# Altium integrated library Analog Devices Operational Amplifiers.IntLib: 2102 symbols (part 24 of 70)
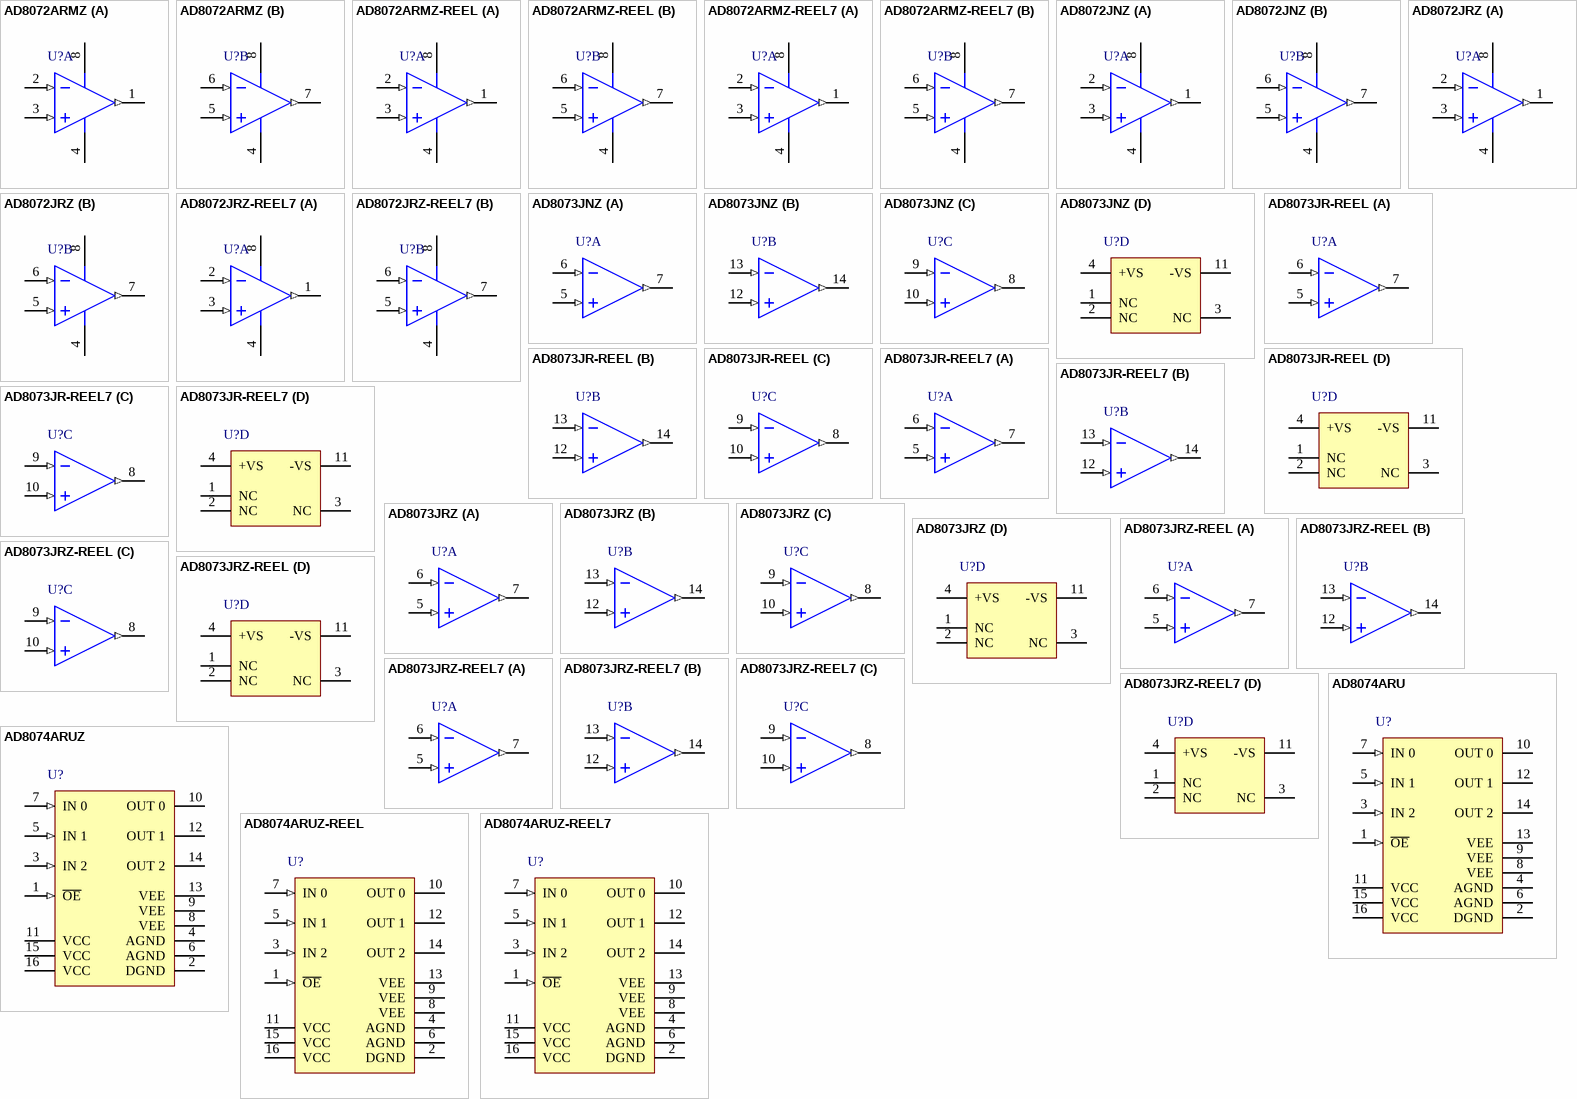
[diagram p137: symbols AD8072ARMZ to AD8074ARUZ-REEL7]

## AD8074ARUZ-REEL7
designator U?
3 Channel Low Supply Current Operational Amplifier, 600 MHz BW, 1.6 KV/us SR, Industrial, 16-pin SOP (RU-16), Reel; Generic Part Number: AD8074; Manufacturer: Analog Devices; PartNumber: AD8074ARUZ-REEL7; Amplifiers Per Package: 3; Input Bias Current: 5uA; Input Offset Voltage: 2.5mV; Iq/Amp: 10mA; Small Signal Bandwidth: 600MHz; V Span Max: 11V; V Span Min: 9V; DatasheetVersion: Rev. B; PackageReference: RU-16; PackageDescription: 16-Pin Thin Shrink Small Outline Package, Body 5 x 4.4 mm, Pitch 0.65 mm; Supplier 1: Digi-Key; Supplier Part Number 1: AD8074ARUZ-REEL7-ND; Slew Rate: 1.6KV/us; Mounting Technology: Surface Mount; Code_JEDEC: MO-153AB; ComponentLink1Description: Manufacturer URL; ComponentLink1URL: http://www.analog.com/en/index.html; ComponentLink2Description: Datasheet; ComponentLink2URL: http://www.analog.com/static/imported-files/data_sheets/AD8074_8075.pdf; ComponentLink3Description: Package Specification; ComponentLink3URL: http://www.analog.com/static/imported-files/packages/36244347913743854010197452789RU16.pdf
footprint ADI-RU-16_N (SOP, 16-Leads, Body 5x4.4mm, Pitch 0.65mm, IPC Medium Density)
footprint ADI-RU-16_L (SOP, 16-Leads, Body 5x4.4mm, Pitch 0.65mm, IPC High Density)
footprint ADI-RU-16_M (SOP, 16-Leads, Body 5x4.4mm, Pitch 0.65mm, IPC Low Density)
pins: 1 ~{OE} (in), 2 DGND (power), 3 IN 2 (in), 4 AGND (power), 5 IN 1 (in), 6 AGND (power), 7 IN 0 (in), 8 VEE (power), 9 VEE (power), 10 OUT 0 (hiz), 11 VCC (power), 12 OUT 1 (hiz), 13 VEE (power), 14 OUT 2 (hiz), 15 VCC (power), 16 VCC (power)

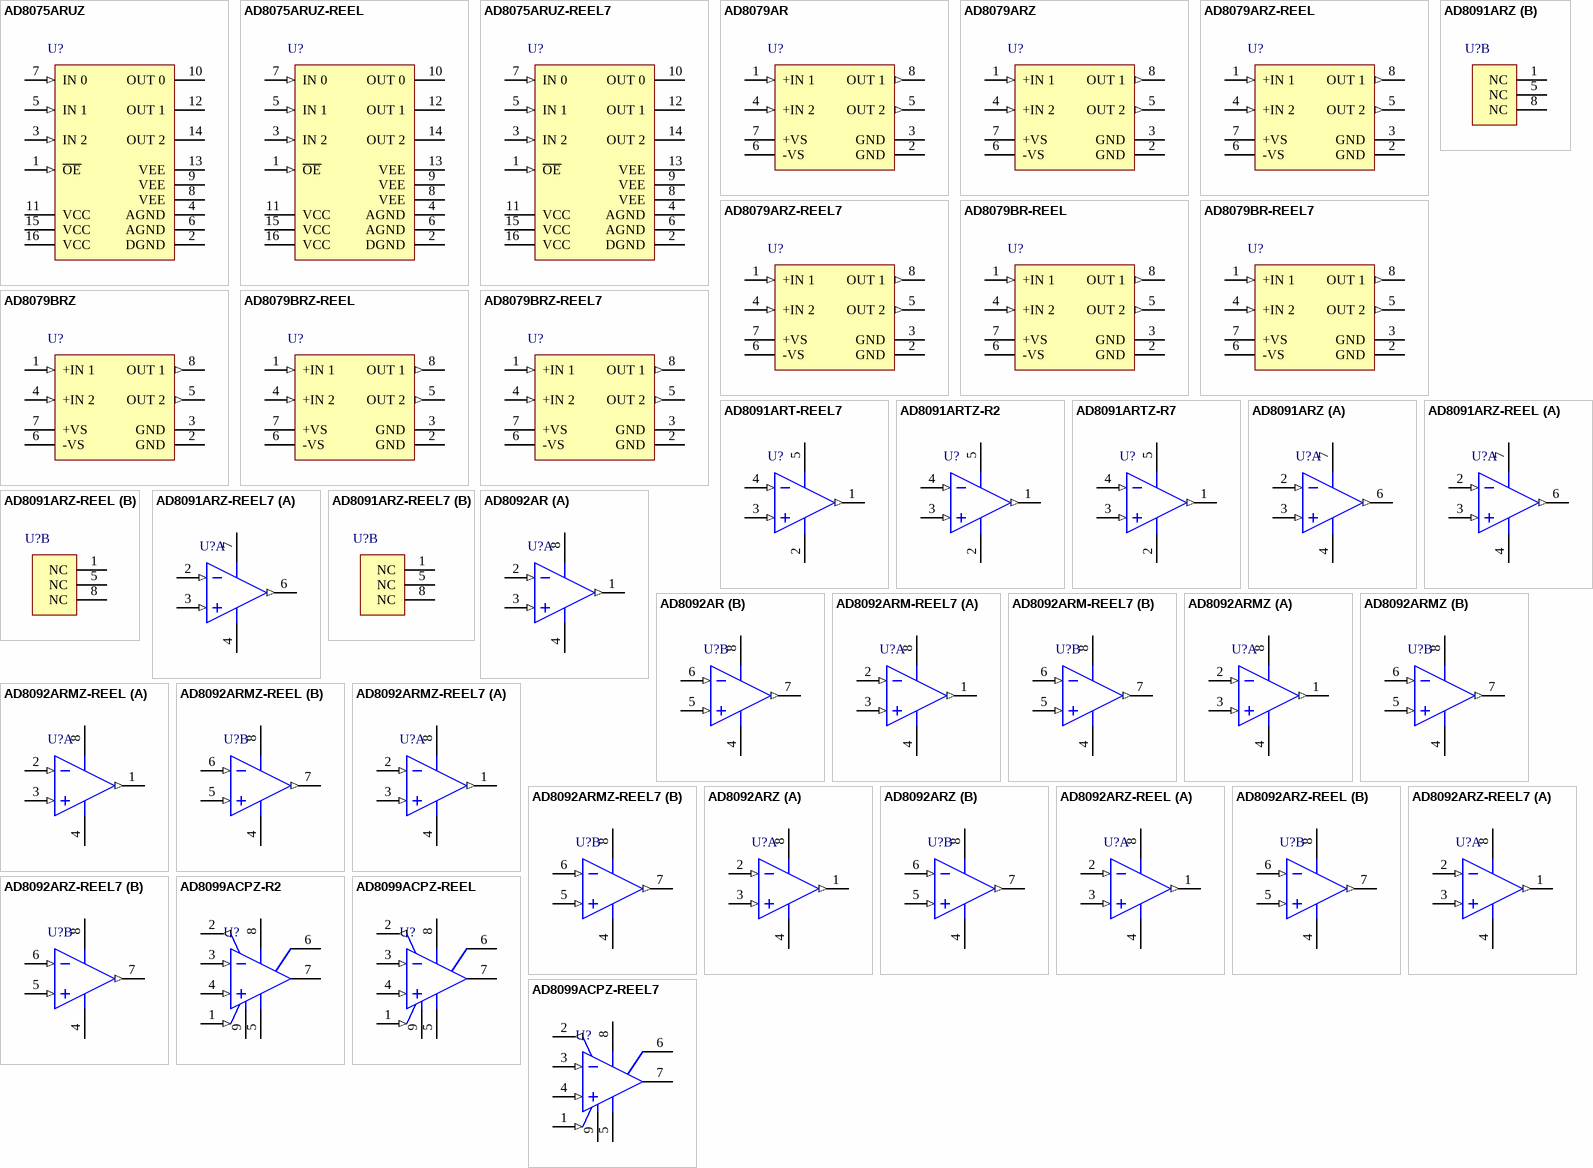
[diagram p35: symbols AD8075ARUZ to AD8099ACPZ-REEL7]

## AD8075ARUZ
designator U?
3 Channel Low Supply Current Operational Amplifier, 550 MHz BW, 1.35 KV/us SR, Industrial, 16-pin SOP (RU-16), Tube; Generic Part Number: AD8075; Manufacturer: Analog Devices; PartNumber: AD8075ARUZ; Amplifiers Per Package: 3; Input Bias Current: 5uA; Input Offset Voltage: 2.5mV; Iq/Amp: 10mA; Small Signal Bandwidth: 550MHz; V Span Max: 11V; V Span Min: 9V; DatasheetVersion: Rev. B; PackageReference: RU-16; PackageDescription: 16-Pin Thin Shrink Small Outline Package, Body 5 x 4.4 mm, Pitch 0.65 mm; Supplier 1: Digi-Key; Supplier Part Number 1: AD8075ARUZ-ND; Supplier 2: Farnell; Supplier Part Number 2: 9426035; Supplier 3: Newark; Supplier Part Number 3: 31M4471; Supplier 4: Newark; Supplier Part Number 4: 19M0930; Slew Rate: 1.35KV/us; Mounting Technology: Surface Mount; Code_JEDEC: MO-153AB; ComponentLink1Description: Manufacturer URL; ComponentLink1URL: http://www.analog.com/en/index.html; ComponentLink2Description: Datasheet; ComponentLink2URL: http://www.analog.com/static/imported-files/data_sheets/AD8074_8075.pdf; ComponentLink3Description: Package Specification; ComponentLink3URL: http://www.analog.com/static/imported-files/packages/36244347913743854010197452789RU16.pdf
footprint ADI-RU-16_N (SOP, 16-Leads, Body 5x4.4mm, Pitch 0.65mm, IPC Medium Density)
footprint ADI-RU-16_L (SOP, 16-Leads, Body 5x4.4mm, Pitch 0.65mm, IPC High Density)
footprint ADI-RU-16_M (SOP, 16-Leads, Body 5x4.4mm, Pitch 0.65mm, IPC Low Density)
pins: 1 ~{OE} (in), 2 DGND (power), 3 IN 2 (in), 4 AGND (power), 5 IN 1 (in), 6 AGND (power), 7 IN 0 (in), 8 VEE (power), 9 VEE (power), 10 OUT 0 (hiz), 11 VCC (power), 12 OUT 1 (hiz), 13 VEE (power), 14 OUT 2 (hiz), 15 VCC (power), 16 VCC (power)

## AD8075ARUZ-REEL
designator U?
3 Channel Low Supply Current Operational Amplifier, 550 MHz BW, 1.35 KV/us SR, Industrial, 16-pin SOP (RU-16), Reel; Generic Part Number: AD8075; Manufacturer: Analog Devices; PartNumber: AD8075ARUZ-REEL; Amplifiers Per Package: 3; Input Bias Current: 5uA; Input Offset Voltage: 2.5mV; Iq/Amp: 10mA; Small Signal Bandwidth: 550MHz; V Span Max: 11V; V Span Min: 9V; DatasheetVersion: Rev. B; PackageReference: RU-16; PackageDescription: 16-Pin Thin Shrink Small Outline Package, Body 5 x 4.4 mm, Pitch 0.65 mm; Supplier 1: Digi-Key; Supplier Part Number 1: AD8075ARUZ-REEL-ND; Supplier 2: Newark; Supplier Part Number 2: 82H2978; Slew Rate: 1.35KV/us; Mounting Technology: Surface Mount; Code_JEDEC: MO-153AB; ComponentLink1Description: Manufacturer URL; ComponentLink1URL: http://www.analog.com/en/index.html; ComponentLink2Description: Datasheet; ComponentLink2URL: http://www.analog.com/static/imported-files/data_sheets/AD8074_8075.pdf; ComponentLink3Description: Package Specification; ComponentLink3URL: http://www.analog.com/static/imported-files/packages/36244347913743854010197452789RU16.pdf
footprint ADI-RU-16_N (SOP, 16-Leads, Body 5x4.4mm, Pitch 0.65mm, IPC Medium Density)
footprint ADI-RU-16_L (SOP, 16-Leads, Body 5x4.4mm, Pitch 0.65mm, IPC High Density)
footprint ADI-RU-16_M (SOP, 16-Leads, Body 5x4.4mm, Pitch 0.65mm, IPC Low Density)
pins: 1 ~{OE} (in), 2 DGND (power), 3 IN 2 (in), 4 AGND (power), 5 IN 1 (in), 6 AGND (power), 7 IN 0 (in), 8 VEE (power), 9 VEE (power), 10 OUT 0 (hiz), 11 VCC (power), 12 OUT 1 (hiz), 13 VEE (power), 14 OUT 2 (hiz), 15 VCC (power), 16 VCC (power)

## AD8075ARUZ-REEL7
designator U?
3 Channel Low Supply Current Operational Amplifier, 550 MHz BW, 1.35 KV/us SR, Industrial, 16-pin SOP (RU-16), Reel; Generic Part Number: AD8075; Manufacturer: Analog Devices; PartNumber: AD8075ARUZ-REEL7; Amplifiers Per Package: 3; Input Bias Current: 5uA; Input Offset Voltage: 2.5mV; Iq/Amp: 10mA; Small Signal Bandwidth: 550MHz; V Span Max: 11V; V Span Min: 9V; DatasheetVersion: Rev. B; PackageReference: RU-16; PackageDescription: 16-Pin Thin Shrink Small Outline Package, Body 5 x 4.4 mm, Pitch 0.65 mm; Supplier 1: Digi-Key; Supplier Part Number 1: AD8075ARUZ-REEL7TR-ND; Supplier 2: Digi-Key; Supplier Part Number 2: AD8075ARUZ-REEL7CT-ND; Supplier 3: Digi-Key; Supplier Part Number 3: AD8075ARUZ-REEL7DKR-ND; Supplier 4: Newark; Supplier Part Number 4: 82H2979; Slew Rate: 1.35KV/us; Mounting Technology: Surface Mount; Code_JEDEC: MO-153AB; ComponentLink1Description: Manufacturer URL; ComponentLink1URL: http://www.analog.com/en/index.html; ComponentLink2Description: Datasheet; ComponentLink2URL: http://www.analog.com/static/imported-files/data_sheets/AD8074_8075.pdf; ComponentLink3Description: Package Specification; ComponentLink3URL: http://www.analog.com/static/imported-files/packages/36244347913743854010197452789RU16.pdf
footprint ADI-RU-16_N (SOP, 16-Leads, Body 5x4.4mm, Pitch 0.65mm, IPC Medium Density)
footprint ADI-RU-16_L (SOP, 16-Leads, Body 5x4.4mm, Pitch 0.65mm, IPC High Density)
footprint ADI-RU-16_M (SOP, 16-Leads, Body 5x4.4mm, Pitch 0.65mm, IPC Low Density)
pins: 1 ~{OE} (in), 2 DGND (power), 3 IN 2 (in), 4 AGND (power), 5 IN 1 (in), 6 AGND (power), 7 IN 0 (in), 8 VEE (power), 9 VEE (power), 10 OUT 0 (hiz), 11 VCC (power), 12 OUT 1 (hiz), 13 VEE (power), 14 OUT 2 (hiz), 15 VCC (power), 16 VCC (power)

## AD8079AR
designator U?
Double Channel Low Power Operational Amplifier, 260 MHz BW, 800 V/us SR, Industrial, 8-pin SOIC (R-8), Tube; Generic Part Number: AD8079; Manufacturer: Analog Devices; PartNumber: AD8079AR; Amplifiers Per Package: 2; Input Bias Current: 3uA; Input Offset Voltage: 5mV; Iq/Amp: 10mA; Small Signal Bandwidth: 260MHz; V Span Max: 12V; V Span Min: 6V; DatasheetVersion: Rev. A; PackageVersion: 060506-A; PackageReference: R-8; PackageDescription: 8-Pin Standard Small Outline Package, Body 3.9 x 4.9 mm, Pitch 1.27 mm; Supplier 1: Digi-Key; Supplier Part Number 1: AD8079AR-ND; Packing: Tube; Slew Rate: 800V/us; Mounting Technology: Surface Mount; Code_JEDEC: MS-012-AA; ComponentLink1Description: Manufacturer URL; ComponentLink1URL: http://www.analog.com/en/index.html; ComponentLink2Description: Datasheet; ComponentLink2URL: http://www.analog.com/static/imported-files/data_sheets/AD8079.pdf; ComponentLink3Description: Package Specification; ComponentLink3URL: http://www.analog.com/static/imported-files/packages/PKG_PDF/SOIC_Narrow%20(R)/R_8.pdf
footprint ADI-R-8_N (SOIC, 8-Leads, Body 4.9x3.9mm, Pitch 1.27mm, IPC Medium Density)
footprint ADI-R-8_L (SOIC, 8-Leads, Body 4.9x3.9mm, Pitch 1.27mm, IPC High Density)
footprint ADI-R-8_M (SOIC, 8-Leads, Body 4.9x3.9mm, Pitch 1.27mm, IPC Low Density)
pins: 1 +IN 1 (in), 2 GND (power), 3 GND (power), 4 +IN 2 (in), 5 OUT 2 (out), 6 -VS (power), 7 +VS (power), 8 OUT 1 (out)

## AD8079ARZ
designator U?
Double Channel Low Power Operational Amplifier, 260 MHz BW, 800 V/us SR, Industrial, 8-pin SOIC (R-8), Tube; Generic Part Number: AD8079; Manufacturer: Analog Devices; PartNumber: AD8079ARZ; Amplifiers Per Package: 2; Input Bias Current: 3uA; Input Offset Voltage: 5mV; Iq/Amp: 10mA; Small Signal Bandwidth: 260MHz; V Span Max: 12V; V Span Min: 6V; DatasheetVersion: Rev. A; PackageVersion: 060506-A; PackageReference: R-8; PackageDescription: 8-Pin Standard Small Outline Package, Body 3.9 x 4.9 mm, Pitch 1.27 mm; Supplier 1: Digi-Key; Supplier Part Number 1: AD8079ARZ-ND; Supplier 2: Farnell; Supplier Part Number 2: 1838858; Supplier 3: Newark; Supplier Part Number 3: 59K6337; Packing: Tube; Slew Rate: 800V/us; Mounting Technology: Surface Mount; Code_JEDEC: MS-012-AA; ComponentLink1Description: Manufacturer URL; ComponentLink1URL: http://www.analog.com/en/index.html; ComponentLink2Description: Datasheet; ComponentLink2URL: http://www.analog.com/static/imported-files/data_sheets/AD8079.pdf; ComponentLink3Description: Package Specification; ComponentLink3URL: http://www.analog.com/static/imported-files/packages/PKG_PDF/SOIC_Narrow%20(R)/R_8.pdf
footprint ADI-R-8_N (SOIC, 8-Leads, Body 4.9x3.9mm, Pitch 1.27mm, IPC Medium Density)
footprint ADI-R-8_L (SOIC, 8-Leads, Body 4.9x3.9mm, Pitch 1.27mm, IPC High Density)
footprint ADI-R-8_M (SOIC, 8-Leads, Body 4.9x3.9mm, Pitch 1.27mm, IPC Low Density)
pins: 1 +IN 1 (in), 2 GND (power), 3 GND (power), 4 +IN 2 (in), 5 OUT 2 (out), 6 -VS (power), 7 +VS (power), 8 OUT 1 (out)

## AD8079ARZ-REEL
designator U?
Double Channel Low Power Operational Amplifier, 260 MHz BW, 800 V/us SR, Industrial, 8-pin SOIC (R-8), Reel; Generic Part Number: AD8079; Manufacturer: Analog Devices; PartNumber: AD8079ARZ-REEL; Amplifiers Per Package: 2; Input Bias Current: 3uA; Input Offset Voltage: 5mV; Iq/Amp: 10mA; Small Signal Bandwidth: 260MHz; V Span Max: 12V; V Span Min: 6V; DatasheetVersion: Rev. A; PackageVersion: 060506-A; PackageReference: R-8; PackageDescription: 8-Pin Standard Small Outline Package, Body 3.9 x 4.9 mm, Pitch 1.27 mm; Supplier 1: Digi-Key; Supplier Part Number 1: AD8079ARZ-REEL-ND; Packing: Reel; Slew Rate: 800V/us; Mounting Technology: Surface Mount; Code_JEDEC: MS-012-AA; ComponentLink1Description: Manufacturer URL; ComponentLink1URL: http://www.analog.com/en/index.html; ComponentLink2Description: Datasheet; ComponentLink2URL: http://www.analog.com/static/imported-files/data_sheets/AD8079.pdf; ComponentLink3Description: Package Specification; ComponentLink3URL: http://www.analog.com/static/imported-files/packages/PKG_PDF/SOIC_Narrow%20(R)/R_8.pdf
footprint ADI-R-8_N (SOIC, 8-Leads, Body 4.9x3.9mm, Pitch 1.27mm, IPC Medium Density)
footprint ADI-R-8_L (SOIC, 8-Leads, Body 4.9x3.9mm, Pitch 1.27mm, IPC High Density)
footprint ADI-R-8_M (SOIC, 8-Leads, Body 4.9x3.9mm, Pitch 1.27mm, IPC Low Density)
pins: 1 +IN 1 (in), 2 GND (power), 3 GND (power), 4 +IN 2 (in), 5 OUT 2 (out), 6 -VS (power), 7 +VS (power), 8 OUT 1 (out)

## AD8079ARZ-REEL7
designator U?
Double Channel Low Power Operational Amplifier, 260 MHz BW, 800 V/us SR, Industrial, 8-pin SOIC (R-8), Reel; Generic Part Number: AD8079; Manufacturer: Analog Devices; PartNumber: AD8079ARZ-REEL7; Amplifiers Per Package: 2; Input Bias Current: 3uA; Input Offset Voltage: 5mV; Iq/Amp: 10mA; Small Signal Bandwidth: 260MHz; V Span Max: 12V; V Span Min: 6V; DatasheetVersion: Rev. A; PackageVersion: 060506-A; PackageReference: R-8; PackageDescription: 8-Pin Standard Small Outline Package, Body 3.9 x 4.9 mm, Pitch 1.27 mm; Supplier 1: Digi-Key; Supplier Part Number 1: AD8079ARZ-REEL7TR-ND; Supplier 2: Digi-Key; Supplier Part Number 2: AD8079ARZ-REEL7CT-ND; Supplier 3: Digi-Key; Supplier Part Number 3: AD8079ARZ-REEL7DKR-ND; Packing: Reel; Slew Rate: 800V/us; Mounting Technology: Surface Mount; Code_JEDEC: MS-012-AA; ComponentLink1Description: Manufacturer URL; ComponentLink1URL: http://www.analog.com/en/index.html; ComponentLink2Description: Datasheet; ComponentLink2URL: http://www.analog.com/static/imported-files/data_sheets/AD8079.pdf; ComponentLink3Description: Package Specification; ComponentLink3URL: http://www.analog.com/static/imported-files/packages/PKG_PDF/SOIC_Narrow%20(R)/R_8.pdf
footprint ADI-R-8_N (SOIC, 8-Leads, Body 4.9x3.9mm, Pitch 1.27mm, IPC Medium Density)
footprint ADI-R-8_L (SOIC, 8-Leads, Body 4.9x3.9mm, Pitch 1.27mm, IPC High Density)
footprint ADI-R-8_M (SOIC, 8-Leads, Body 4.9x3.9mm, Pitch 1.27mm, IPC Low Density)
pins: 1 +IN 1 (in), 2 GND (power), 3 GND (power), 4 +IN 2 (in), 5 OUT 2 (out), 6 -VS (power), 7 +VS (power), 8 OUT 1 (out)

## AD8079BR-REEL
designator U?
Double Channel Low Power Operational Amplifier, 260 MHz BW, 800 V/us SR, Industrial, 8-pin SOIC (R-8), Reel; Generic Part Number: AD8079; Manufacturer: Analog Devices; PartNumber: AD8079BR-REEL; Amplifiers Per Package: 2; Input Bias Current: 3uA; Input Offset Voltage: 5mV; Iq/Amp: 10mA; Small Signal Bandwidth: 260MHz; V Span Max: 12V; V Span Min: 6V; DatasheetVersion: Rev. A; PackageVersion: 060506-A; PackageReference: R-8; PackageDescription: 8-Pin Standard Small Outline Package, Body 3.9 x 4.9 mm, Pitch 1.27 mm; Supplier 1: Digi-Key; Supplier Part Number 1: AD8079BR-REEL-ND; Packing: Reel; Slew Rate: 800V/us; Mounting Technology: Surface Mount; Code_JEDEC: MS-012-AA; ComponentLink1Description: Manufacturer URL; ComponentLink1URL: http://www.analog.com/en/index.html; ComponentLink2Description: Datasheet; ComponentLink2URL: http://www.analog.com/static/imported-files/data_sheets/AD8079.pdf; ComponentLink3Description: Package Specification; ComponentLink3URL: http://www.analog.com/static/imported-files/packages/PKG_PDF/SOIC_Narrow%20(R)/R_8.pdf
footprint ADI-R-8_N (SOIC, 8-Leads, Body 4.9x3.9mm, Pitch 1.27mm, IPC Medium Density)
footprint ADI-R-8_L (SOIC, 8-Leads, Body 4.9x3.9mm, Pitch 1.27mm, IPC High Density)
footprint ADI-R-8_M (SOIC, 8-Leads, Body 4.9x3.9mm, Pitch 1.27mm, IPC Low Density)
pins: 1 +IN 1 (in), 2 GND (power), 3 GND (power), 4 +IN 2 (in), 5 OUT 2 (out), 6 -VS (power), 7 +VS (power), 8 OUT 1 (out)

## AD8079BR-REEL7
designator U?
Double Channel Low Power Operational Amplifier, 260 MHz BW, 800 V/us SR, Industrial, 8-pin SOIC (R-8), Reel; Generic Part Number: AD8079; Manufacturer: Analog Devices; PartNumber: AD8079BR-REEL7; Amplifiers Per Package: 2; Input Bias Current: 3uA; Input Offset Voltage: 5mV; Iq/Amp: 10mA; Small Signal Bandwidth: 260MHz; V Span Max: 12V; V Span Min: 6V; DatasheetVersion: Rev. A; PackageVersion: 060506-A; PackageReference: R-8; PackageDescription: 8-Pin Standard Small Outline Package, Body 3.9 x 4.9 mm, Pitch 1.27 mm; Supplier 1: Digi-Key; Supplier Part Number 1: AD8079BR-REEL7-ND; Packing: Reel; Slew Rate: 800V/us; Mounting Technology: Surface Mount; Code_JEDEC: MS-012-AA; ComponentLink1Description: Manufacturer URL; ComponentLink1URL: http://www.analog.com/en/index.html; ComponentLink2Description: Datasheet; ComponentLink2URL: http://www.analog.com/static/imported-files/data_sheets/AD8079.pdf; ComponentLink3Description: Package Specification; ComponentLink3URL: http://www.analog.com/static/imported-files/packages/PKG_PDF/SOIC_Narrow%20(R)/R_8.pdf
footprint ADI-R-8_N (SOIC, 8-Leads, Body 4.9x3.9mm, Pitch 1.27mm, IPC Medium Density)
footprint ADI-R-8_L (SOIC, 8-Leads, Body 4.9x3.9mm, Pitch 1.27mm, IPC High Density)
footprint ADI-R-8_M (SOIC, 8-Leads, Body 4.9x3.9mm, Pitch 1.27mm, IPC Low Density)
pins: 1 +IN 1 (in), 2 GND (power), 3 GND (power), 4 +IN 2 (in), 5 OUT 2 (out), 6 -VS (power), 7 +VS (power), 8 OUT 1 (out)

## AD8079BRZ
designator U?
Double Channel Low Power Operational Amplifier, 260 MHz BW, 800 V/us SR, Industrial, 8-pin SOIC (R-8), Tube; Generic Part Number: AD8079; Manufacturer: Analog Devices; PartNumber: AD8079BRZ; Amplifiers Per Package: 2; Input Bias Current: 3uA; Input Offset Voltage: 5mV; Iq/Amp: 10mA; Small Signal Bandwidth: 260MHz; V Span Max: 12V; V Span Min: 6V; DatasheetVersion: Rev. A; PackageVersion: 060506-A; PackageReference: R-8; PackageDescription: 8-Pin Standard Small Outline Package, Body 3.9 x 4.9 mm, Pitch 1.27 mm; Supplier 1: Digi-Key; Supplier Part Number 1: AD8079BRZ-ND; Supplier 2: Newark; Supplier Part Number 2: 59K6340; Packing: Tube; Slew Rate: 800V/us; Mounting Technology: Surface Mount; Code_JEDEC: MS-012-AA; ComponentLink1Description: Manufacturer URL; ComponentLink1URL: http://www.analog.com/en/index.html; ComponentLink2Description: Datasheet; ComponentLink2URL: http://www.analog.com/static/imported-files/data_sheets/AD8079.pdf; ComponentLink3Description: Package Specification; ComponentLink3URL: http://www.analog.com/static/imported-files/packages/PKG_PDF/SOIC_Narrow%20(R)/R_8.pdf
footprint ADI-R-8_N (SOIC, 8-Leads, Body 4.9x3.9mm, Pitch 1.27mm, IPC Medium Density)
footprint ADI-R-8_L (SOIC, 8-Leads, Body 4.9x3.9mm, Pitch 1.27mm, IPC High Density)
footprint ADI-R-8_M (SOIC, 8-Leads, Body 4.9x3.9mm, Pitch 1.27mm, IPC Low Density)
pins: 1 +IN 1 (in), 2 GND (power), 3 GND (power), 4 +IN 2 (in), 5 OUT 2 (out), 6 -VS (power), 7 +VS (power), 8 OUT 1 (out)

## AD8079BRZ-REEL
designator U?
Double Channel Low Power Operational Amplifier, 260 MHz BW, 800 V/us SR, Industrial, 8-pin SOIC (R-8), Reel; Generic Part Number: AD8079; Manufacturer: Analog Devices; PartNumber: AD8079BRZ-REEL; Amplifiers Per Package: 2; Input Bias Current: 3uA; Input Offset Voltage: 5mV; Iq/Amp: 10mA; Small Signal Bandwidth: 260MHz; V Span Max: 12V; V Span Min: 6V; DatasheetVersion: Rev. A; PackageVersion: 060506-A; PackageReference: R-8; PackageDescription: 8-Pin Standard Small Outline Package, Body 3.9 x 4.9 mm, Pitch 1.27 mm; Supplier 1: Digi-Key; Supplier Part Number 1: AD8079BRZ-REEL-ND; Packing: Reel; Slew Rate: 800V/us; Mounting Technology: Surface Mount; Code_JEDEC: MS-012-AA; ComponentLink1Description: Manufacturer URL; ComponentLink1URL: http://www.analog.com/en/index.html; ComponentLink2Description: Datasheet; ComponentLink2URL: http://www.analog.com/static/imported-files/data_sheets/AD8079.pdf; ComponentLink3Description: Package Specification; ComponentLink3URL: http://www.analog.com/static/imported-files/packages/PKG_PDF/SOIC_Narrow%20(R)/R_8.pdf
footprint ADI-R-8_N (SOIC, 8-Leads, Body 4.9x3.9mm, Pitch 1.27mm, IPC Medium Density)
footprint ADI-R-8_L (SOIC, 8-Leads, Body 4.9x3.9mm, Pitch 1.27mm, IPC High Density)
footprint ADI-R-8_M (SOIC, 8-Leads, Body 4.9x3.9mm, Pitch 1.27mm, IPC Low Density)
pins: 1 +IN 1 (in), 2 GND (power), 3 GND (power), 4 +IN 2 (in), 5 OUT 2 (out), 6 -VS (power), 7 +VS (power), 8 OUT 1 (out)

## AD8079BRZ-REEL7
designator U?
Double Channel Low Power Operational Amplifier, 260 MHz BW, 800 V/us SR, Industrial, 8-pin SOIC (R-8), Reel; Generic Part Number: AD8079; Manufacturer: Analog Devices; PartNumber: AD8079BRZ-REEL7; Amplifiers Per Package: 2; Input Bias Current: 3uA; Input Offset Voltage: 5mV; Iq/Amp: 10mA; Small Signal Bandwidth: 260MHz; V Span Max: 12V; V Span Min: 6V; DatasheetVersion: Rev. A; PackageVersion: 060506-A; PackageReference: R-8; PackageDescription: 8-Pin Standard Small Outline Package, Body 3.9 x 4.9 mm, Pitch 1.27 mm; Supplier 1: Digi-Key; Supplier Part Number 1: AD8079BRZ-REEL7-ND; Packing: Reel; Slew Rate: 800V/us; Mounting Technology: Surface Mount; Code_JEDEC: MS-012-AA; ComponentLink1Description: Manufacturer URL; ComponentLink1URL: http://www.analog.com/en/index.html; ComponentLink2Description: Datasheet; ComponentLink2URL: http://www.analog.com/static/imported-files/data_sheets/AD8079.pdf; ComponentLink3Description: Package Specification; ComponentLink3URL: http://www.analog.com/static/imported-files/packages/PKG_PDF/SOIC_Narrow%20(R)/R_8.pdf
footprint ADI-R-8_N (SOIC, 8-Leads, Body 4.9x3.9mm, Pitch 1.27mm, IPC Medium Density)
footprint ADI-R-8_L (SOIC, 8-Leads, Body 4.9x3.9mm, Pitch 1.27mm, IPC High Density)
footprint ADI-R-8_M (SOIC, 8-Leads, Body 4.9x3.9mm, Pitch 1.27mm, IPC Low Density)
pins: 1 +IN 1 (in), 2 GND (power), 3 GND (power), 4 +IN 2 (in), 5 OUT 2 (out), 6 -VS (power), 7 +VS (power), 8 OUT 1 (out)

## AD8091ART-REEL7
designator U?
Single Channel Single-Supply Operation Operational Amplifier, 110 MHz BW, 170 V/us SR, Industrial, 5-pin SOT23 (RJ-5), Reel; Generic Part Number: AD8091; Manufacturer: Analog Devices; PartNumber: AD8091ART-REEL7; Amplifiers Per Package: 1; Input Bias Current: 1.3uA; Input Offset Voltage: 1.6mV; Iq/Amp: 5.5mA; Small Signal Bandwidth: 110MHz; V Span Max: 12V; V Span Min: 3V; DatasheetVersion: Rev. C; PackageVersion: 121608-A; PackageReference: RJ-5; PackageDescription: 5-Pin Small Outline Transistor Package, Body 2.9 x 1.6 mm, Pitch 0.95 mm; Supplier 1: Digi-Key; Supplier Part Number 1: AD8091ART-REEL7-ND; Slew Rate: 170V/us; Mounting Technology: Surface Mount; Code_JEDEC: MO-178-AA; ComponentLink1Description: Manufacturer URL; ComponentLink1URL: http://www.analog.com/en/index.html; ComponentLink2Description: Datasheet; ComponentLink2URL: http://www.analog.com/static/imported-files/data_sheets/AD8091_8092.pdf; ComponentLink3Description: Package Specification; ComponentLink3URL: http://www.analog.com/static/imported-files/packages/PKG_PDF/SOT-23(RJ)/RJ_5.pdf
footprint ADI-RJ-5_N (SOT-23, 5-Leads, Body 2.9x1.6mm, Pitch 0.95mm, IPC Medium Density)
footprint ADI-RJ-5_L (SOT-23, 5-Leads, Body 2.9x1.6mm, Pitch 0.95mm, IPC High Density)
footprint ADI-RJ-5_M (SOT-23, 5-Leads, Body 2.9x1.6mm, Pitch 0.95mm, IPC Low Density)
pins: 1 VOUT (out), 2 -VS (power), 3 +IN (in), 4 -IN (in), 5 +VS (power)

## AD8091ARTZ-R2
designator U?
Single Channel Single-Supply Operation Operational Amplifier, 110 MHz BW, 170 V/us SR, Industrial, 5-pin SOT23 (RJ-5), Reel; Generic Part Number: AD8091; Manufacturer: Analog Devices; PartNumber: AD8091ARTZ-R2; Amplifiers Per Package: 1; Input Bias Current: 1.3uA; Input Offset Voltage: 1.6mV; Iq/Amp: 5.5mA; Small Signal Bandwidth: 110MHz; V Span Max: 12V; V Span Min: 3V; DatasheetVersion: Rev. C; PackageVersion: 121608-A; PackageReference: RJ-5; PackageDescription: 5-Pin Small Outline Transistor Package, Body 2.9 x 1.6 mm, Pitch 0.95 mm; Slew Rate: 170V/us; Mounting Technology: Surface Mount; Code_JEDEC: MO-178-AA; ComponentLink1Description: Manufacturer URL; ComponentLink1URL: http://www.analog.com/en/index.html; ComponentLink2Description: Datasheet; ComponentLink2URL: http://www.analog.com/static/imported-files/data_sheets/AD8091_8092.pdf; ComponentLink3Description: Package Specification; ComponentLink3URL: http://www.analog.com/static/imported-files/packages/PKG_PDF/SOT-23(RJ)/RJ_5.pdf
footprint ADI-RJ-5_N (SOT-23, 5-Leads, Body 2.9x1.6mm, Pitch 0.95mm, IPC Medium Density)
footprint ADI-RJ-5_L (SOT-23, 5-Leads, Body 2.9x1.6mm, Pitch 0.95mm, IPC High Density)
footprint ADI-RJ-5_M (SOT-23, 5-Leads, Body 2.9x1.6mm, Pitch 0.95mm, IPC Low Density)
pins: 1 VOUT (out), 2 -VS (power), 3 +IN (in), 4 -IN (in), 5 +VS (power)

## AD8091ARTZ-R7
designator U?
Single Channel Single-Supply Operation Operational Amplifier, 110 MHz BW, 170 V/us SR, Industrial, 5-pin SOT23 (RJ-5), Reel; Generic Part Number: AD8091; Manufacturer: Analog Devices; PartNumber: AD8091ARTZ-R7; Amplifiers Per Package: 1; Input Bias Current: 1.3uA; Input Offset Voltage: 1.6mV; Iq/Amp: 5.5mA; Small Signal Bandwidth: 110MHz; V Span Max: 12V; V Span Min: 3V; DatasheetVersion: Rev. C; PackageVersion: 121608-A; PackageReference: RJ-5; PackageDescription: 5-Pin Small Outline Transistor Package, Body 2.9 x 1.6 mm, Pitch 0.95 mm; Supplier 1: Digi-Key; Supplier Part Number 1: AD8091ARTZ-R7TR-ND; Supplier 2: Digi-Key; Supplier Part Number 2: AD8091ARTZ-R7CT-ND; Supplier 3: Digi-Key; Supplier Part Number 3: AD8091ARTZ-R7DKR-ND; Supplier 4: Newark; Supplier Part Number 4: 67W2742; Supplier 5: Newark; Supplier Part Number 5: 59K6348; Slew Rate: 170V/us; Mounting Technology: Surface Mount; Code_JEDEC: MO-178-AA; ComponentLink1Description: Manufacturer URL; ComponentLink1URL: http://www.analog.com/en/index.html; ComponentLink2Description: Datasheet; ComponentLink2URL: http://www.analog.com/static/imported-files/data_sheets/AD8091_8092.pdf; ComponentLink3Description: Package Specification; ComponentLink3URL: http://www.analog.com/static/imported-files/packages/PKG_PDF/SOT-23(RJ)/RJ_5.pdf
footprint ADI-RJ-5_N (SOT-23, 5-Leads, Body 2.9x1.6mm, Pitch 0.95mm, IPC Medium Density)
footprint ADI-RJ-5_L (SOT-23, 5-Leads, Body 2.9x1.6mm, Pitch 0.95mm, IPC High Density)
footprint ADI-RJ-5_M (SOT-23, 5-Leads, Body 2.9x1.6mm, Pitch 0.95mm, IPC Low Density)
pins: 1 VOUT (out), 2 -VS (power), 3 +IN (in), 4 -IN (in), 5 +VS (power)

## AD8091ARZ
designator U?
Single Channel Single-Supply Operation Operational Amplifier, 110 MHz BW, 170 V/us SR, Industrial, 8-pin SOIC (R-8), Tube; Generic Part Number: AD8091; Manufacturer: Analog Devices; PartNumber: AD8091ARZ; Amplifiers Per Package: 1; Input Bias Current: 1.3uA; Input Offset Voltage: 1.6mV; Iq/Amp: 5.5mA; Small Signal Bandwidth: 110MHz; V Span Max: 12V; V Span Min: 3V; DatasheetVersion: Rev. C; PackageVersion: 060506-A; PackageReference: R-8; PackageDescription: 8-Pin Standard Small Outline Package, Body 3.9 x 4.9 mm, Pitch 1.27 mm; Supplier 1: Digi-Key; Supplier Part Number 1: AD8091ARZ-ND; Supplier 2: Farnell; Supplier Part Number 2: 8621543; Supplier 3: Newark; Supplier Part Number 3: 31M4472; Supplier 4: Newark; Supplier Part Number 4: 19M0931; Slew Rate: 170V/us; Mounting Technology: Surface Mount; Code_JEDEC: MS-012-AA; ComponentLink1Description: Manufacturer URL; ComponentLink1URL: http://www.analog.com/en/index.html; ComponentLink2Description: Datasheet; ComponentLink2URL: http://www.analog.com/static/imported-files/data_sheets/AD8091_8092.pdf; ComponentLink3Description: Package Specification; ComponentLink3URL: http://www.analog.com/static/imported-files/packages/PKG_PDF/SOIC_Narrow%20(R)/R_8.pdf
footprint ADI-R-8_N (SOIC, 8-Leads, Body 4.9x3.9mm, Pitch 1.27mm, IPC Medium Density)
footprint ADI-R-8_L (SOIC, 8-Leads, Body 4.9x3.9mm, Pitch 1.27mm, IPC High Density)
footprint ADI-R-8_M (SOIC, 8-Leads, Body 4.9x3.9mm, Pitch 1.27mm, IPC Low Density)
part A pins: 2 -IN (in), 3 +IN (in), 4 -VS (power), 6 VOUT (out), 7 +VS (power)
part B pins: 1 NC, 5 NC, 8 NC

## AD8091ARZ-REEL
designator U?
Single Channel Single-Supply Operation Operational Amplifier, 110 MHz BW, 170 V/us SR, Industrial, 8-pin SOIC (R-8), Reel; Generic Part Number: AD8091; Manufacturer: Analog Devices; PartNumber: AD8091ARZ-REEL; Amplifiers Per Package: 1; Input Bias Current: 1.3uA; Input Offset Voltage: 1.6mV; Iq/Amp: 5.5mA; Small Signal Bandwidth: 110MHz; V Span Max: 12V; V Span Min: 3V; DatasheetVersion: Rev. C; PackageVersion: 060506-A; PackageReference: R-8; PackageDescription: 8-Pin Standard Small Outline Package, Body 3.9 x 4.9 mm, Pitch 1.27 mm; Supplier 1: Digi-Key; Supplier Part Number 1: AD8091ARZ-REEL-ND; Slew Rate: 170V/us; Mounting Technology: Surface Mount; Code_JEDEC: MS-012-AA; ComponentLink1Description: Manufacturer URL; ComponentLink1URL: http://www.analog.com/en/index.html; ComponentLink2Description: Datasheet; ComponentLink2URL: http://www.analog.com/static/imported-files/data_sheets/AD8091_8092.pdf; ComponentLink3Description: Package Specification; ComponentLink3URL: http://www.analog.com/static/imported-files/packages/PKG_PDF/SOIC_Narrow%20(R)/R_8.pdf
footprint ADI-R-8_N (SOIC, 8-Leads, Body 4.9x3.9mm, Pitch 1.27mm, IPC Medium Density)
footprint ADI-R-8_L (SOIC, 8-Leads, Body 4.9x3.9mm, Pitch 1.27mm, IPC High Density)
footprint ADI-R-8_M (SOIC, 8-Leads, Body 4.9x3.9mm, Pitch 1.27mm, IPC Low Density)
part A pins: 2 -IN (in), 3 +IN (in), 4 -VS (power), 6 VOUT (out), 7 +VS (power)
part B pins: 1 NC, 5 NC, 8 NC

## AD8091ARZ-REEL7
designator U?
Single Channel Single-Supply Operation Operational Amplifier, 110 MHz BW, 170 V/us SR, Industrial, 8-pin SOIC (R-8), Reel; Generic Part Number: AD8091; Manufacturer: Analog Devices; PartNumber: AD8091ARZ-REEL7; Amplifiers Per Package: 1; Input Bias Current: 1.3uA; Input Offset Voltage: 1.6mV; Iq/Amp: 5.5mA; Small Signal Bandwidth: 110MHz; V Span Max: 12V; V Span Min: 3V; DatasheetVersion: Rev. C; PackageVersion: 060506-A; PackageReference: R-8; PackageDescription: 8-Pin Standard Small Outline Package, Body 3.9 x 4.9 mm, Pitch 1.27 mm; Supplier 1: Digi-Key; Supplier Part Number 1: AD8091ARZ-REEL7TR-ND; Supplier 2: Digi-Key; Supplier Part Number 2: AD8091ARZ-REEL7CT-ND; Supplier 3: Digi-Key; Supplier Part Number 3: AD8091ARZ-REEL7DKR-ND; Slew Rate: 170V/us; Mounting Technology: Surface Mount; Code_JEDEC: MS-012-AA; ComponentLink1Description: Manufacturer URL; ComponentLink1URL: http://www.analog.com/en/index.html; ComponentLink2Description: Datasheet; ComponentLink2URL: http://www.analog.com/static/imported-files/data_sheets/AD8091_8092.pdf; ComponentLink3Description: Package Specification; ComponentLink3URL: http://www.analog.com/static/imported-files/packages/PKG_PDF/SOIC_Narrow%20(R)/R_8.pdf
footprint ADI-R-8_N (SOIC, 8-Leads, Body 4.9x3.9mm, Pitch 1.27mm, IPC Medium Density)
footprint ADI-R-8_L (SOIC, 8-Leads, Body 4.9x3.9mm, Pitch 1.27mm, IPC High Density)
footprint ADI-R-8_M (SOIC, 8-Leads, Body 4.9x3.9mm, Pitch 1.27mm, IPC Low Density)
part A pins: 2 -IN (in), 3 +IN (in), 4 -VS (power), 6 VOUT (out), 7 +VS (power)
part B pins: 1 NC, 5 NC, 8 NC

## AD8092AR
designator U?
Double Channel Single-Supply Operation Operational Amplifier, 110 MHz BW, 170 V/us SR, Industrial, 8-pin SOIC (R-8), Tube; Generic Part Number: AD8092; Manufacturer: Analog Devices; PartNumber: AD8092AR; Amplifiers Per Package: 2; Input Bias Current: 1.3uA; Input Offset Voltage: 1.6mV; Iq/Amp: 5.5mA; Small Signal Bandwidth: 110MHz; V Span Max: 12V; V Span Min: 3V; DatasheetVersion: Rev. C; PackageVersion: 060506-A; PackageReference: R-8; PackageDescription: 8-Pin Standard Small Outline Package, Body 3.9 x 4.9 mm, Pitch 1.27 mm; Supplier 1: Digi-Key; Supplier Part Number 1: AD8092AR-ND; Slew Rate: 170V/us; Mounting Technology: Surface Mount; Code_JEDEC: MS-012-AA; ComponentLink1Description: Manufacturer URL; ComponentLink1URL: http://www.analog.com/en/index.html; ComponentLink2Description: Datasheet; ComponentLink2URL: http://www.analog.com/static/imported-files/data_sheets/AD8091_8092.pdf; ComponentLink3Description: Package Specification; ComponentLink3URL: http://www.analog.com/static/imported-files/packages/PKG_PDF/SOIC_Narrow%20(R)/R_8.pdf
footprint ADI-R-8_N (SOIC, 8-Leads, Body 4.9x3.9mm, Pitch 1.27mm, IPC Medium Density)
footprint ADI-R-8_L (SOIC, 8-Leads, Body 4.9x3.9mm, Pitch 1.27mm, IPC High Density)
footprint ADI-R-8_M (SOIC, 8-Leads, Body 4.9x3.9mm, Pitch 1.27mm, IPC Low Density)
pins on every part: 4 -VS (power), 8 +VS (power)
part A pins: 1 OUT 1 (out), 2 -IN 1 (in), 3 +IN 1 (in)
part B pins: 5 +IN 2 (in), 6 -IN 2 (in), 7 OUT 2 (out)

## AD8092ARM-REEL7
designator U?
Double Channel Single-Supply Operation Operational Amplifier, 110 MHz BW, 170 V/us SR, Industrial, 8-pin SOP (RM-8), Reel; Generic Part Number: AD8092; Manufacturer: Analog Devices; PartNumber: AD8092ARM-REEL7; Amplifiers Per Package: 2; Input Bias Current: 1.3uA; Input Offset Voltage: 1.6mV; Iq/Amp: 5.5mA; Small Signal Bandwidth: 110MHz; V Span Max: 12V; V Span Min: 3V; DatasheetVersion: Rev. C; PackageReference: RM-8; PackageDescription: 8-Pin Mini Small Outline Package, Body 3 x 3 mm, Pitch 0.65 mm; Slew Rate: 170V/us; Mounting Technology: Surface Mount; Code_JEDEC: MO-187-AA; ComponentLink1Description: Manufacturer URL; ComponentLink1URL: http://www.analog.com/en/index.html; ComponentLink2Description: Datasheet; ComponentLink2URL: http://www.analog.com/static/imported-files/data_sheets/AD8091_8092.pdf; ComponentLink3Description: Package Specification; ComponentLink3URL: http://www.analog.com/static/imported-files/packages/PKG_PDF/MSOP%28RM%29/RM_8.pdf
footprint ADI-RM-8_N (SOP, 8-Leads, Body 3x3mm, Pitch 0.65mm, IPC Medium Density)
footprint ADI-RM-8_L (SOP, 8-Leads, Body 3x3mm, Pitch 0.65mm, IPC High Density)
footprint ADI-RM-8_M (SOP, 8-Leads, Body 3x3mm, Pitch 0.65mm, IPC Low Density)
pins on every part: 4 -VS (power), 8 +VS (power)
part A pins: 1 OUT 1 (out), 2 -IN 1 (in), 3 +IN 1 (in)
part B pins: 5 +IN 2 (in), 6 -IN 2 (in), 7 OUT 2 (out)

## AD8092ARMZ
designator U?
Double Channel Single-Supply Operation Operational Amplifier, 110 MHz BW, 170 V/us SR, Industrial, 8-pin SOP (RM-8), Tube; Generic Part Number: AD8092; Manufacturer: Analog Devices; PartNumber: AD8092ARMZ; Amplifiers Per Package: 2; Input Bias Current: 1.3uA; Input Offset Voltage: 1.6mV; Iq/Amp: 5.5mA; Small Signal Bandwidth: 110MHz; V Span Max: 12V; V Span Min: 3V; DatasheetVersion: Rev. C; PackageReference: RM-8; PackageDescription: 8-Pin Mini Small Outline Package, Body 3 x 3 mm, Pitch 0.65 mm; Supplier 1: Digi-Key; Supplier Part Number 1: AD8092ARMZ-ND; Supplier 2: Newark; Supplier Part Number 2: 88H0169; Slew Rate: 170V/us; Mounting Technology: Surface Mount; Code_JEDEC: MO-187-AA; ComponentLink1Description: Manufacturer URL; ComponentLink1URL: http://www.analog.com/en/index.html; ComponentLink2Description: Datasheet; ComponentLink2URL: http://www.analog.com/static/imported-files/data_sheets/AD8091_8092.pdf; ComponentLink3Description: Package Specification; ComponentLink3URL: http://www.analog.com/static/imported-files/packages/PKG_PDF/MSOP%28RM%29/RM_8.pdf
footprint ADI-RM-8_N (SOP, 8-Leads, Body 3x3mm, Pitch 0.65mm, IPC Medium Density)
footprint ADI-RM-8_L (SOP, 8-Leads, Body 3x3mm, Pitch 0.65mm, IPC High Density)
footprint ADI-RM-8_M (SOP, 8-Leads, Body 3x3mm, Pitch 0.65mm, IPC Low Density)
pins on every part: 4 -VS (power), 8 +VS (power)
part A pins: 1 OUT 1 (out), 2 -IN 1 (in), 3 +IN 1 (in)
part B pins: 5 +IN 2 (in), 6 -IN 2 (in), 7 OUT 2 (out)

## AD8092ARMZ-REEL
designator U?
Double Channel Single-Supply Operation Operational Amplifier, 110 MHz BW, 170 V/us SR, Industrial, 8-pin SOP (RM-8), Reel; Generic Part Number: AD8092; Manufacturer: Analog Devices; PartNumber: AD8092ARMZ-REEL; Amplifiers Per Package: 2; Input Bias Current: 1.3uA; Input Offset Voltage: 1.6mV; Iq/Amp: 5.5mA; Small Signal Bandwidth: 110MHz; V Span Max: 12V; V Span Min: 3V; DatasheetVersion: Rev. C; PackageReference: RM-8; PackageDescription: 8-Pin Mini Small Outline Package, Body 3 x 3 mm, Pitch 0.65 mm; Supplier 1: Digi-Key; Supplier Part Number 1: AD8092ARMZ-REEL-ND; Slew Rate: 170V/us; Mounting Technology: Surface Mount; Code_JEDEC: MO-187-AA; ComponentLink1Description: Manufacturer URL; ComponentLink1URL: http://www.analog.com/en/index.html; ComponentLink2Description: Datasheet; ComponentLink2URL: http://www.analog.com/static/imported-files/data_sheets/AD8091_8092.pdf; ComponentLink3Description: Package Specification; ComponentLink3URL: http://www.analog.com/static/imported-files/packages/PKG_PDF/MSOP%28RM%29/RM_8.pdf
footprint ADI-RM-8_N (SOP, 8-Leads, Body 3x3mm, Pitch 0.65mm, IPC Medium Density)
footprint ADI-RM-8_L (SOP, 8-Leads, Body 3x3mm, Pitch 0.65mm, IPC High Density)
footprint ADI-RM-8_M (SOP, 8-Leads, Body 3x3mm, Pitch 0.65mm, IPC Low Density)
pins on every part: 4 -VS (power), 8 +VS (power)
part A pins: 1 OUT 1 (out), 2 -IN 1 (in), 3 +IN 1 (in)
part B pins: 5 +IN 2 (in), 6 -IN 2 (in), 7 OUT 2 (out)

## AD8092ARMZ-REEL7
designator U?
Double Channel Single-Supply Operation Operational Amplifier, 110 MHz BW, 170 V/us SR, Industrial, 8-pin SOP (RM-8), Reel; Generic Part Number: AD8092; Manufacturer: Analog Devices; PartNumber: AD8092ARMZ-REEL7; Amplifiers Per Package: 2; Input Bias Current: 1.3uA; Input Offset Voltage: 1.6mV; Iq/Amp: 5.5mA; Small Signal Bandwidth: 110MHz; V Span Max: 12V; V Span Min: 3V; DatasheetVersion: Rev. C; PackageReference: RM-8; PackageDescription: 8-Pin Mini Small Outline Package, Body 3 x 3 mm, Pitch 0.65 mm; Supplier 1: Digi-Key; Supplier Part Number 1: AD8092ARMZ-REEL7-ND; Slew Rate: 170V/us; Mounting Technology: Surface Mount; Code_JEDEC: MO-187-AA; ComponentLink1Description: Manufacturer URL; ComponentLink1URL: http://www.analog.com/en/index.html; ComponentLink2Description: Datasheet; ComponentLink2URL: http://www.analog.com/static/imported-files/data_sheets/AD8091_8092.pdf; ComponentLink3Description: Package Specification; ComponentLink3URL: http://www.analog.com/static/imported-files/packages/PKG_PDF/MSOP%28RM%29/RM_8.pdf
footprint ADI-RM-8_N (SOP, 8-Leads, Body 3x3mm, Pitch 0.65mm, IPC Medium Density)
footprint ADI-RM-8_L (SOP, 8-Leads, Body 3x3mm, Pitch 0.65mm, IPC High Density)
footprint ADI-RM-8_M (SOP, 8-Leads, Body 3x3mm, Pitch 0.65mm, IPC Low Density)
pins on every part: 4 -VS (power), 8 +VS (power)
part A pins: 1 OUT 1 (out), 2 -IN 1 (in), 3 +IN 1 (in)
part B pins: 5 +IN 2 (in), 6 -IN 2 (in), 7 OUT 2 (out)

## AD8092ARZ
designator U?
Double Channel Single-Supply Operation Operational Amplifier, 110 MHz BW, 170 V/us SR, Industrial, 8-pin SOIC (R-8), Tube; Generic Part Number: AD8092; Manufacturer: Analog Devices; PartNumber: AD8092ARZ; Amplifiers Per Package: 2; Input Bias Current: 1.3uA; Input Offset Voltage: 1.6mV; Iq/Amp: 5.5mA; Small Signal Bandwidth: 110MHz; V Span Max: 12V; V Span Min: 3V; DatasheetVersion: Rev. C; PackageVersion: 060506-A; PackageReference: R-8; PackageDescription: 8-Pin Standard Small Outline Package, Body 3.9 x 4.9 mm, Pitch 1.27 mm; Supplier 1: Digi-Key; Supplier Part Number 1: AD8092ARZ-ND; Supplier 2: Newark; Supplier Part Number 2: 59K6351; Slew Rate: 170V/us; Mounting Technology: Surface Mount; Code_JEDEC: MS-012-AA; ComponentLink1Description: Manufacturer URL; ComponentLink1URL: http://www.analog.com/en/index.html; ComponentLink2Description: Datasheet; ComponentLink2URL: http://www.analog.com/static/imported-files/data_sheets/AD8091_8092.pdf; ComponentLink3Description: Package Specification; ComponentLink3URL: http://www.analog.com/static/imported-files/packages/PKG_PDF/SOIC_Narrow%20(R)/R_8.pdf
footprint ADI-R-8_N (SOIC, 8-Leads, Body 4.9x3.9mm, Pitch 1.27mm, IPC Medium Density)
footprint ADI-R-8_L (SOIC, 8-Leads, Body 4.9x3.9mm, Pitch 1.27mm, IPC High Density)
footprint ADI-R-8_M (SOIC, 8-Leads, Body 4.9x3.9mm, Pitch 1.27mm, IPC Low Density)
pins on every part: 4 -VS (power), 8 +VS (power)
part A pins: 1 OUT 1 (out), 2 -IN 1 (in), 3 +IN 1 (in)
part B pins: 5 +IN 2 (in), 6 -IN 2 (in), 7 OUT 2 (out)

## AD8092ARZ-REEL
designator U?
Double Channel Single-Supply Operation Operational Amplifier, 110 MHz BW, 170 V/us SR, Industrial, 8-pin SOIC (R-8), Reel; Generic Part Number: AD8092; Manufacturer: Analog Devices; PartNumber: AD8092ARZ-REEL; Amplifiers Per Package: 2; Input Bias Current: 1.3uA; Input Offset Voltage: 1.6mV; Iq/Amp: 5.5mA; Small Signal Bandwidth: 110MHz; V Span Max: 12V; V Span Min: 3V; DatasheetVersion: Rev. C; PackageVersion: 060506-A; PackageReference: R-8; PackageDescription: 8-Pin Standard Small Outline Package, Body 3.9 x 4.9 mm, Pitch 1.27 mm; Supplier 1: Digi-Key; Supplier Part Number 1: AD8092ARZ-REEL-ND; Slew Rate: 170V/us; Mounting Technology: Surface Mount; Code_JEDEC: MS-012-AA; ComponentLink1Description: Manufacturer URL; ComponentLink1URL: http://www.analog.com/en/index.html; ComponentLink2Description: Datasheet; ComponentLink2URL: http://www.analog.com/static/imported-files/data_sheets/AD8091_8092.pdf; ComponentLink3Description: Package Specification; ComponentLink3URL: http://www.analog.com/static/imported-files/packages/PKG_PDF/SOIC_Narrow%20(R)/R_8.pdf
footprint ADI-R-8_N (SOIC, 8-Leads, Body 4.9x3.9mm, Pitch 1.27mm, IPC Medium Density)
footprint ADI-R-8_L (SOIC, 8-Leads, Body 4.9x3.9mm, Pitch 1.27mm, IPC High Density)
footprint ADI-R-8_M (SOIC, 8-Leads, Body 4.9x3.9mm, Pitch 1.27mm, IPC Low Density)
pins on every part: 4 -VS (power), 8 +VS (power)
part A pins: 1 OUT 1 (out), 2 -IN 1 (in), 3 +IN 1 (in)
part B pins: 5 +IN 2 (in), 6 -IN 2 (in), 7 OUT 2 (out)

## AD8092ARZ-REEL7
designator U?
Double Channel Single-Supply Operation Operational Amplifier, 110 MHz BW, 170 V/us SR, Industrial, 8-pin SOIC (R-8), Reel; Generic Part Number: AD8092; Manufacturer: Analog Devices; PartNumber: AD8092ARZ-REEL7; Amplifiers Per Package: 2; Input Bias Current: 1.3uA; Input Offset Voltage: 1.6mV; Iq/Amp: 5.5mA; Small Signal Bandwidth: 110MHz; V Span Max: 12V; V Span Min: 3V; DatasheetVersion: Rev. C; PackageVersion: 060506-A; PackageReference: R-8; PackageDescription: 8-Pin Standard Small Outline Package, Body 3.9 x 4.9 mm, Pitch 1.27 mm; Supplier 1: Digi-Key; Supplier Part Number 1: AD8092ARZ-REEL7TR-ND; Supplier 2: Digi-Key; Supplier Part Number 2: AD8092ARZ-REEL7CT-ND; Supplier 3: Newark; Supplier Part Number 3: 59K6353; Slew Rate: 170V/us; Mounting Technology: Surface Mount; Code_JEDEC: MS-012-AA; ComponentLink1Description: Manufacturer URL; ComponentLink1URL: http://www.analog.com/en/index.html; ComponentLink2Description: Datasheet; ComponentLink2URL: http://www.analog.com/static/imported-files/data_sheets/AD8091_8092.pdf; ComponentLink3Description: Package Specification; ComponentLink3URL: http://www.analog.com/static/imported-files/packages/PKG_PDF/SOIC_Narrow%20(R)/R_8.pdf
footprint ADI-R-8_N (SOIC, 8-Leads, Body 4.9x3.9mm, Pitch 1.27mm, IPC Medium Density)
footprint ADI-R-8_L (SOIC, 8-Leads, Body 4.9x3.9mm, Pitch 1.27mm, IPC High Density)
footprint ADI-R-8_M (SOIC, 8-Leads, Body 4.9x3.9mm, Pitch 1.27mm, IPC Low Density)
pins on every part: 4 -VS (power), 8 +VS (power)
part A pins: 1 OUT 1 (out), 2 -IN 1 (in), 3 +IN 1 (in)
part B pins: 5 +IN 2 (in), 6 -IN 2 (in), 7 OUT 2 (out)

## AD8099ACPZ-R2
designator U?
Single Channel Ultra Low Noise Operational Amplifier, 500 MHz BW, 1.35 KV/us SR, Industrial, 8-pin QFN (CP-8-2), Reel; Generic Part Number: AD8099; Manufacturer: Analog Devices; PartNumber: AD8099ACPZ-R2; Amplifiers Per Package: 1; Input Bias Current: 3uA; Input Offset Voltage: 100uV; Iq/Amp: 16mA; Small Signal Bandwidth: 500MHz; V Span Max: 12V; V Span Min: 5V; DatasheetVersion: Rev. B; PackageVersion: 061507-B; PackageReference: CP-8-2; PackageDescription: 8-Pin Lead Frame Chip Scale Package, Body 3 x 3 mm, Pitch 0.5 mm; Supplier 1: Newark; Supplier Part Number 1: 59K6359; Slew Rate: 1.35KV/us; Mounting Technology: Surface Mount; ComponentLink1Description: Manufacturer URL; ComponentLink1URL: http://www.analog.com/en/index.html; ComponentLink2Description: Datasheet; ComponentLink2URL: http://www.analog.com/static/imported-files/data_sheets/AD8099.pdf; ComponentLink3Description: Package Specification; ComponentLink3URL: http://www.analog.com/static/imported-files/packages/56953322593982CP_8_2.pdf
footprint ADI-CP-8-2_N (QFN, 8-Leads, Body 3x3mm, Pitch 0.5mm, Thermal Pad 1.45X1.74mm, IPC Medium Density)
footprint ADI-CP-8-2_L (QFN, 8-Leads, Body 3x3mm, Pitch 0.5mm, Thermal Pad 1.45X1.74mm, IPC High Density)
footprint ADI-CP-8-2_M (QFN, 8-Leads, Body 3x3mm, Pitch 0.5mm, Thermal Pad 1.45X1.74mm, IPC Low Density)
pins: 1 ~{DISABLE} (in), 2 FEEDBACK (out), 3 -IN (in), 4 +IN (in), 5 -VS (power), 6 CC, 7 VOUT (hiz), 8 +VS (power), 9 EP

## AD8099ACPZ-REEL
designator U?
Single Channel Ultra Low Noise Operational Amplifier, 500 MHz BW, 1.35 KV/us SR, Industrial, 8-pin QFN (CP-8-2), Reel; Generic Part Number: AD8099; Manufacturer: Analog Devices; PartNumber: AD8099ACPZ-REEL; Amplifiers Per Package: 1; Input Bias Current: 3uA; Input Offset Voltage: 100uV; Iq/Amp: 16mA; Small Signal Bandwidth: 500MHz; V Span Max: 12V; V Span Min: 5V; DatasheetVersion: Rev. B; PackageVersion: 061507-B; PackageReference: CP-8-2; PackageDescription: 8-Pin Lead Frame Chip Scale Package, Body 3 x 3 mm, Pitch 0.5 mm; Supplier 1: Digi-Key; Supplier Part Number 1: AD8099ACPZ-REEL-ND; Slew Rate: 1.35KV/us; Mounting Technology: Surface Mount; ComponentLink1Description: Manufacturer URL; ComponentLink1URL: http://www.analog.com/en/index.html; ComponentLink2Description: Datasheet; ComponentLink2URL: http://www.analog.com/static/imported-files/data_sheets/AD8099.pdf; ComponentLink3Description: Package Specification; ComponentLink3URL: http://www.analog.com/static/imported-files/packages/56953322593982CP_8_2.pdf
footprint ADI-CP-8-2_N (QFN, 8-Leads, Body 3x3mm, Pitch 0.5mm, Thermal Pad 1.45X1.74mm, IPC Medium Density)
footprint ADI-CP-8-2_L (QFN, 8-Leads, Body 3x3mm, Pitch 0.5mm, Thermal Pad 1.45X1.74mm, IPC High Density)
footprint ADI-CP-8-2_M (QFN, 8-Leads, Body 3x3mm, Pitch 0.5mm, Thermal Pad 1.45X1.74mm, IPC Low Density)
pins: 1 ~{DISABLE} (in), 2 FEEDBACK (out), 3 -IN (in), 4 +IN (in), 5 -VS (power), 6 CC, 7 VOUT (hiz), 8 +VS (power), 9 EP

## AD8099ACPZ-REEL7
designator U?
Single Channel Ultra Low Noise Operational Amplifier, 500 MHz BW, 1.35 KV/us SR, Industrial, 8-pin QFN (CP-8-2), Reel; Generic Part Number: AD8099; Manufacturer: Analog Devices; PartNumber: AD8099ACPZ-REEL7; Amplifiers Per Package: 1; Input Bias Current: 3uA; Input Offset Voltage: 100uV; Iq/Amp: 16mA; Small Signal Bandwidth: 500MHz; V Span Max: 12V; V Span Min: 5V; DatasheetVersion: Rev. B; PackageVersion: 061507-B; PackageReference: CP-8-2; PackageDescription: 8-Pin Lead Frame Chip Scale Package, Body 3 x 3 mm, Pitch 0.5 mm; Supplier 1: Digi-Key; Supplier Part Number 1: AD8099ACPZ-REEL7TR-ND; Supplier 2: Digi-Key; Supplier Part Number 2: AD8099ACPZ-REEL7CT-ND; Supplier 3: Digi-Key; Supplier Part Number 3: AD8099ACPZ-REEL7DKR-ND; Slew Rate: 1.35KV/us; Mounting Technology: Surface Mount; ComponentLink1Description: Manufacturer URL; ComponentLink1URL: http://www.analog.com/en/index.html; ComponentLink2Description: Datasheet; ComponentLink2URL: http://www.analog.com/static/imported-files/data_sheets/AD8099.pdf; ComponentLink3Description: Package Specification; ComponentLink3URL: http://www.analog.com/static/imported-files/packages/56953322593982CP_8_2.pdf
footprint ADI-CP-8-2_N (QFN, 8-Leads, Body 3x3mm, Pitch 0.5mm, Thermal Pad 1.45X1.74mm, IPC Medium Density)
footprint ADI-CP-8-2_L (QFN, 8-Leads, Body 3x3mm, Pitch 0.5mm, Thermal Pad 1.45X1.74mm, IPC High Density)
footprint ADI-CP-8-2_M (QFN, 8-Leads, Body 3x3mm, Pitch 0.5mm, Thermal Pad 1.45X1.74mm, IPC Low Density)
pins: 1 ~{DISABLE} (in), 2 FEEDBACK (out), 3 -IN (in), 4 +IN (in), 5 -VS (power), 6 CC, 7 VOUT (hiz), 8 +VS (power), 9 EP

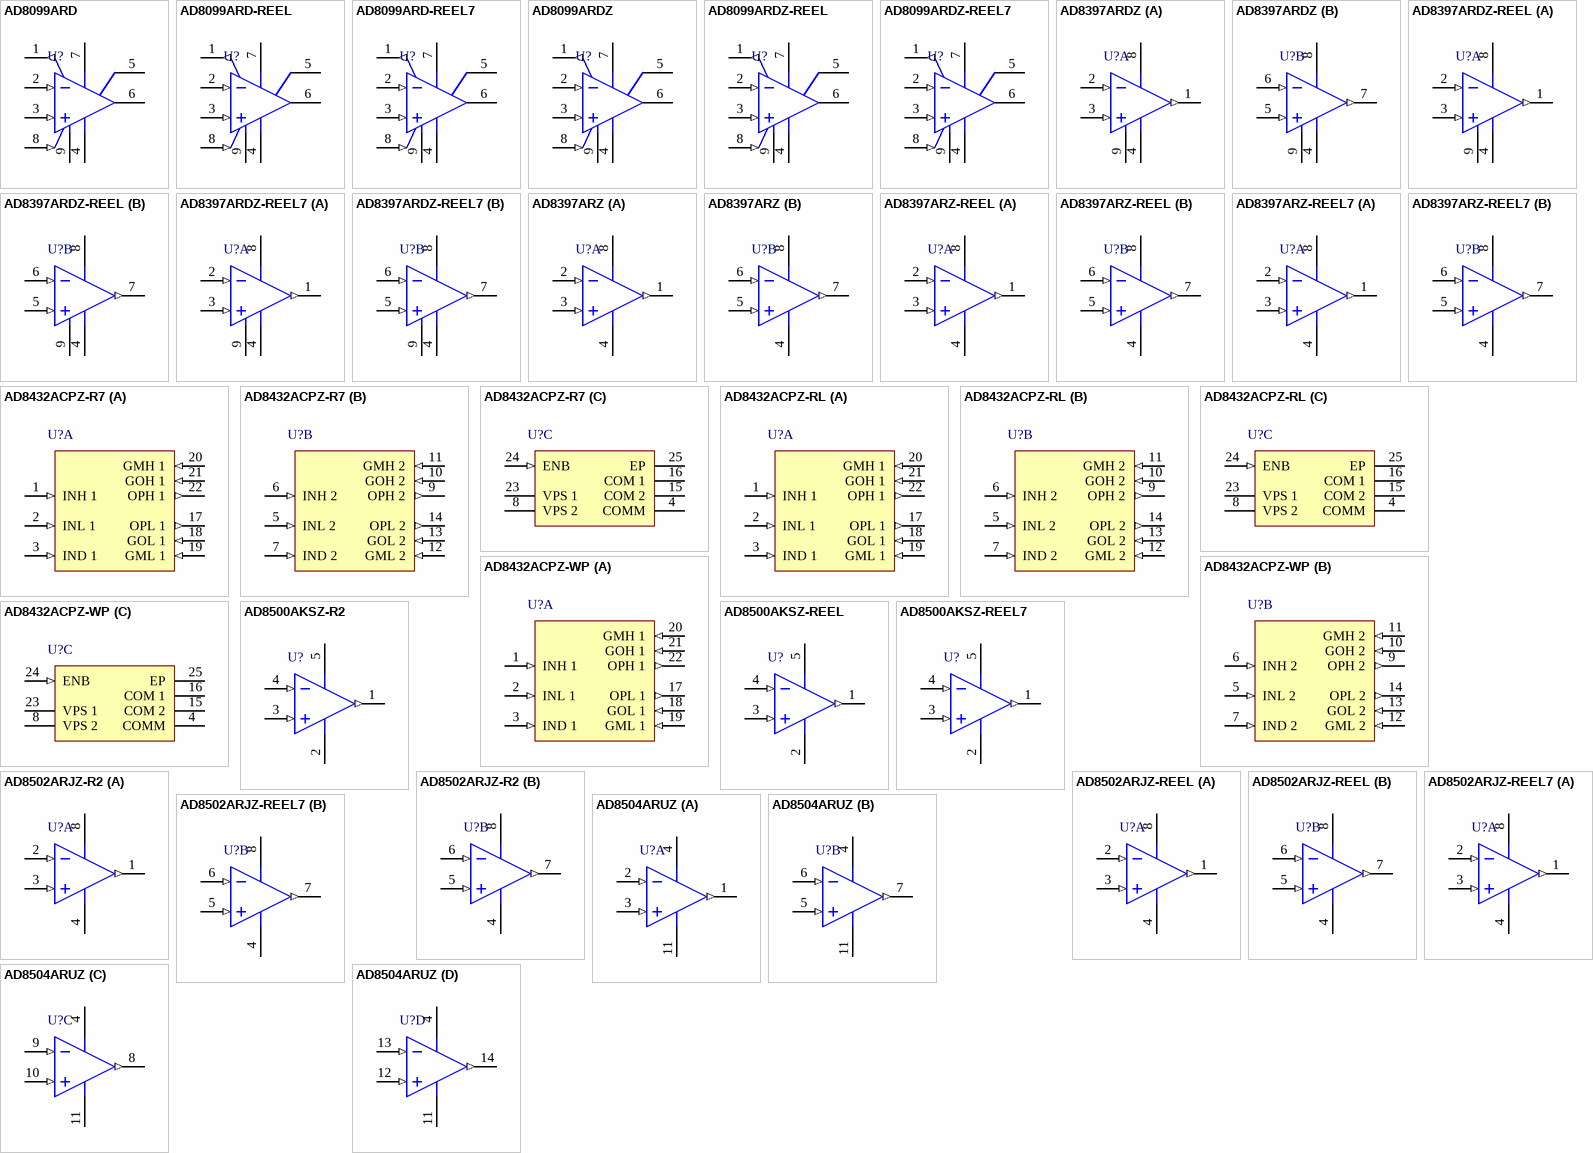
[diagram p36: symbols AD8099ARD to AD8504ARUZ]

## AD8099ARD
designator U?
Single Channel Ultra Low Noise Operational Amplifier, 500 MHz BW, 1.35 KV/us SR, Industrial, 8-pin SOIC (RD-8-1), Tube; Generic Part Number: AD8099; Manufacturer: Analog Devices; PartNumber: AD8099ARD; Amplifiers Per Package: 1; Input Bias Current: 3uA; Input Offset Voltage: 100uV; Iq/Amp: 16mA; Small Signal Bandwidth: 500MHz; V Span Max: 12V; V Span Min: 5V; DatasheetVersion: Rev. B; PackageVersion: 060506-A; PackageReference: RD-8-1; PackageDescription: 8-Pin Standard Small Outline Package, Body 4.9 x 3.9 mm, Pitch 1.27 mm; Supplier 1: Digi-Key; Supplier Part Number 1: AD8099ARD-ND; Slew Rate: 1.35KV/us; Mounting Technology: Surface Mount; Code_JEDEC: MS-012-AA; ComponentLink1Description: Manufacturer URL; ComponentLink1URL: http://www.analog.com/en/index.html; ComponentLink2Description: Datasheet; ComponentLink2URL: http://www.analog.com/static/imported-files/data_sheets/AD8099.pdf; ComponentLink3Description: Package Specification; ComponentLink3URL: http://www.analog.com/static/imported-files/packages/PKG_PDF/SOIC_ED(RD)/RD_8_1.pdf
footprint ADI-RD-8-1_N (SOIC, 8-Leads, Body 4.9x3.9mm, Pitch 1.27mm, Thermal Pad 2.29x2.29mm, IPC Medium Density)
footprint ADI-RD-8-1_L (SOIC, 8-Leads, Body 4.9x3.9mm, Pitch 1.27mm, Thermal Pad 2.29x2.29mm, IPC High Density)
footprint ADI-RD-8-1_M (SOIC, 8-Leads, Body 4.9x3.9mm, Pitch 1.27mm, Thermal Pad 2.29x2.29mm, IPC Low Density)
pins: 1 FEEDBACK (out), 2 -IN (in), 3 +IN (in), 4 -VS (power), 5 CC, 6 VOUT (hiz), 7 +VS (power), 8 ~{DISABLE} (in), 9 EP

## AD8099ARD-REEL
designator U?
Single Channel Ultra Low Noise Operational Amplifier, 500 MHz BW, 1.35 KV/us SR, Industrial, 8-pin SOIC (RD-8-1), Reel; Generic Part Number: AD8099; Manufacturer: Analog Devices; PartNumber: AD8099ARD-REEL; Amplifiers Per Package: 1; Input Bias Current: 3uA; Input Offset Voltage: 100uV; Iq/Amp: 16mA; Small Signal Bandwidth: 500MHz; V Span Max: 12V; V Span Min: 5V; DatasheetVersion: Rev. B; PackageVersion: 060506-A; PackageReference: RD-8-1; PackageDescription: 8-Pin Standard Small Outline Package, Body 4.9 x 3.9 mm, Pitch 1.27 mm; Supplier 1: Digi-Key; Supplier Part Number 1: AD8099ARD-REEL-ND; Slew Rate: 1.35KV/us; Mounting Technology: Surface Mount; Code_JEDEC: MS-012-AA; ComponentLink1Description: Manufacturer URL; ComponentLink1URL: http://www.analog.com/en/index.html; ComponentLink2Description: Datasheet; ComponentLink2URL: http://www.analog.com/static/imported-files/data_sheets/AD8099.pdf; ComponentLink3Description: Package Specification; ComponentLink3URL: http://www.analog.com/static/imported-files/packages/PKG_PDF/SOIC_ED(RD)/RD_8_1.pdf
footprint ADI-RD-8-1_N (SOIC, 8-Leads, Body 4.9x3.9mm, Pitch 1.27mm, Thermal Pad 2.29x2.29mm, IPC Medium Density)
footprint ADI-RD-8-1_L (SOIC, 8-Leads, Body 4.9x3.9mm, Pitch 1.27mm, Thermal Pad 2.29x2.29mm, IPC High Density)
footprint ADI-RD-8-1_M (SOIC, 8-Leads, Body 4.9x3.9mm, Pitch 1.27mm, Thermal Pad 2.29x2.29mm, IPC Low Density)
pins: 1 FEEDBACK (out), 2 -IN (in), 3 +IN (in), 4 -VS (power), 5 CC, 6 VOUT (hiz), 7 +VS (power), 8 ~{DISABLE} (in), 9 EP